# EAGLE library part SN65HVD230D (library SN65HVD230D)
3.3-V CAN TRANSCEIVERS
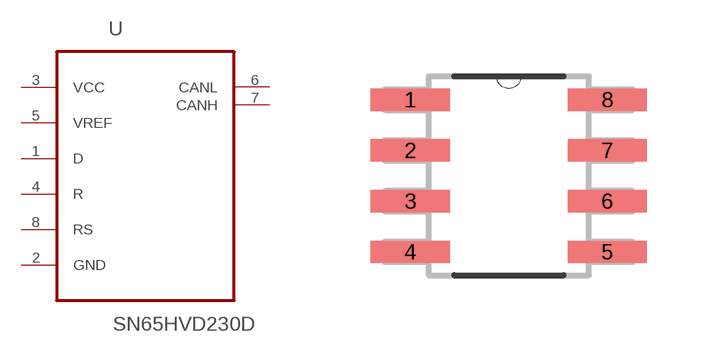
[diagram p0: symbol with the pads of SOIC127P600X175-8N; footprint SOIC127P600X175-8N]

Designator prefix U

## SN65HVD230D (AVAILABILITY: Unavailable; DESCRIPTION: 3.3V CAN Transceiver with Standby Mode 8-SOIC -40 to 85; MF: Texas Instruments; MP: SN65HVD230D; PACKAGE: SOIC-8 Texas Instruments; PRICE: None)  [SOIC127P600X175-8N]
1  D  in
2  GND  pas
3  VCC  pwr
4  R  in
5  VREF  in
6  CANL  out
7  CANH  out
8  RS  in

## Footprint SOIC127P600X175-8N (pad centres in mm)
smd 1.981 x 0.559: 1 -2.464,1.905; 2 -2.464,0.635; 3 -2.464,-0.635; 4 -2.464,-1.905; 5 2.464,-1.905; 6 2.464,-0.635; 7 2.464,0.635; 8 2.464,1.905